# Altium footprint library FPC.PcbLib: 12 footprints
Each footprint in its own frame and in the unit in brackets; x right, y up, seen from the top. Pads: shape width x height; smd on the part's side, far side on the other; paste and mask are expansions set on the pad; w line width, h text height; cw(c..) or ccw(c..) is an arc to the next point about the centre after c.
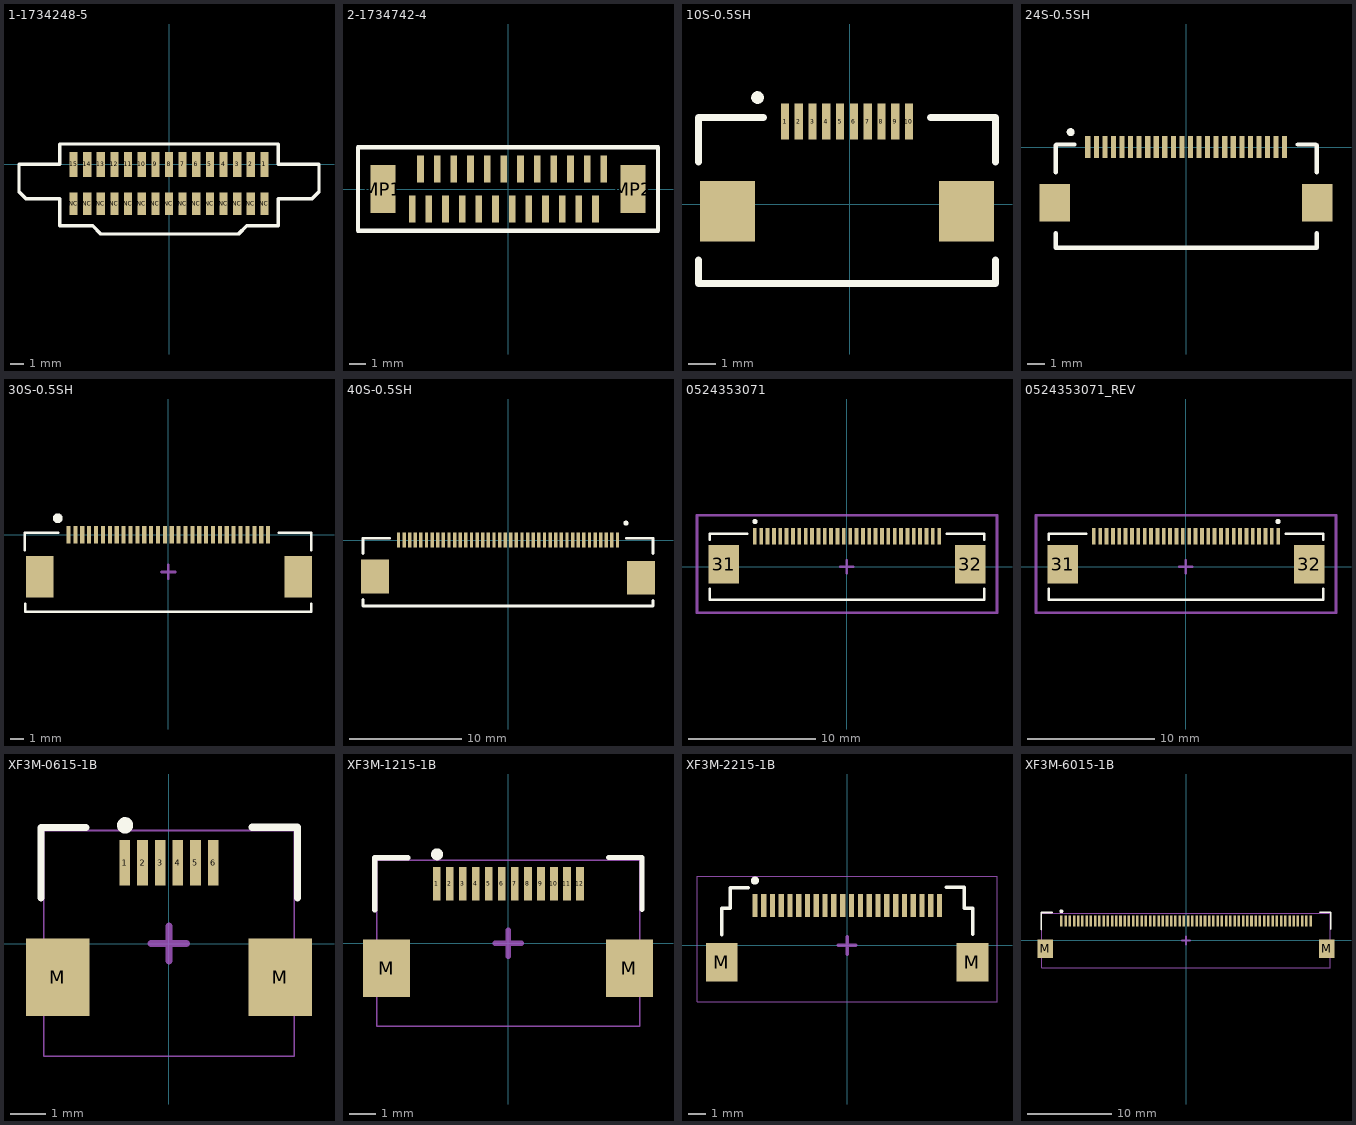
[diagram p0: the footprints below, top view; thin cyan lines are the x and y axes]

## 1-1734248-5 [mm] "Vertical, 15 pins, 1mm pitch, TE connector"
height 5.5
pads (30):
  rect 0.6x1.85 smd: 1(7,0) 2(6,0) 3(5,0) 4(4,0) 5(3,0) 6(2,0) 7(1,0) 8(0,0) 9(-1,0) 10(-2,0) 11(-3,0) 12(-4,0) 13(-5,0) 14(-6,0) 15(-7,0)
  rect 0.6x1.65 smd: NC(-7,-2.9) NC(-6,-2.9) NC(-5,-2.9) NC(-4,-2.9) NC(-3,-2.9) NC(-2,-2.9) NC(-1,-2.9) NC(0,-2.9) NC(1,-2.9) NC(2,-2.9) NC(3,-2.9) NC(4,-2.9) NC(5,-2.9) NC(6,-2.9) NC(7,-2.9)
Top Overlay:
  lines w0.254: -11,-2 -11,0 -8,0 -8,1.5 -7.7,1.5 7.7,1.5 8,1.5 8,0 11,0 11,-2 10.5,-2.5 8,-2.5 8,-4.5 5.7,-4.5 5.1,-5.1 -5,-5.1 -5.6,-4.5 -8,-4.5 -8,-2.5 -10.5,-2.5 -11,-2

## 2-1734742-4 [mm] "Vertical, 24 pins, 0.5mm pitch, TE connector"
height 4.15
pads (26):
  rect 0.4x1.6 smd: 1(-5.75,-1.2) 2(-5.25,1.2) 3(-4.75,-1.2) 4(-4.25,1.2) 5(-3.75,-1.2) 6(-3.25,1.2) 7(-2.75,-1.2) 8(-2.25,1.2) 9(-1.75,-1.2) 10(-1.25,1.2) 11(-0.75,-1.2) 12(-0.25,1.2) 13(0.25,-1.2) 14(0.75,1.2) 15(1.25,-1.2) 16(1.75,1.2) 17(2.25,-1.2) 18(2.75,1.2) 19(3.25,-1.2) 20(3.75,1.2) 21(4.25,-1.2) 22(4.75,1.2) 23(5.25,-1.2) 24(5.75,1.2)
  rect 1.5x2.9 smd: MP1(-7.5,0) MP2(7.5,0)
Top Overlay:
  lines w0.254: -9,-2.5 0,-2.5 9,-2.5 9,0 9,2.5 0,2.5 -9,2.5 -9,0 -9,-2.5

## 10S-0.5SH [mm]
pads (12):
  rect 0.3x1.3 smd: 1(-2.35,3) 2(-1.85,3) 3(-1.35,3) 4(-0.85,3) 5(-0.35,3) 6(0.15,3) 7(0.65,3) 8(1.15,3) 9(1.65,3) 10(2.15,3)
  rect 2x2.2 smd: ""(-4.45,-0.25) ""(4.25,-0.25)
Top Overlay:
  circle w0.254: c-3.35,3.875 r0.103
  lines w0.254: -5.5,-2.025 -5.5,-2.875 5.3,-2.875 5.3,-2.025 ; -5.5,1.525 -5.5,3.15 -3.125,3.15 ; 2.925,3.15 5.3,3.15 5.3,1.525
3D body "1302345_1-1734592-0.stp": height 2.1, standoff 0.05, extent -5.315,-2.11 5.115,3

## 24S-0.5SH [mm]
pads (26):
  rect 0.3x1.3 smd: 1(-5.75,0) 2(-5.25,0) 3(-4.75,0) 4(-4.25,0) 5(-3.75,0) 6(-3.25,0) 7(-2.75,0) 8(-2.25,0) 9(-1.75,0) 10(-1.25,0) 11(-0.75,0) 12(-0.25,0) 13(0.25,0) 14(0.75,0) 15(1.25,0) 16(1.75,0) 17(2.25,0) 18(2.75,0) 19(3.25,0) 20(3.75,0) 21(4.25,0) 22(4.75,0) 23(5.25,0) 24(5.75,0)
  rect 1.8x2.2 smd: ""(-7.675,-3.25) ""(7.65,-3.25)
Top Overlay:
  circle w0.254: c-6.75,0.875 r0.103
  lines w0.254: -7.625,-5.025 -7.625,-5.875 7.625,-5.875 7.625,-5.025 ; -7.625,-1.475 -7.625,0.1 -7.575,0.15 -6.525,0.15 ; 6.525,0.15 7.575,0.15 7.625,0.1 7.625,-1.475

## 30S-0.5SH [mm]
pads (32):
  rect 0.3x1.3 smd mask+0.05: 1(-7.25,0) 2(-6.75,0) 3(-6.25,0) 4(-5.75,0) 5(-5.25,0) 6(-4.75,0) 7(-4.25,0) 8(-3.75,0) 9(-3.25,0) 10(-2.75,0) 11(-2.25,0) 12(-1.75,0) 13(-1.25,0) 14(-0.75,0) 15(-0.25,0) 16(0.25,0) 17(0.75,0) 18(1.25,0) 19(1.75,0) 20(2.25,0) 21(2.75,0) 22(3.25,0) 23(3.75,0) 24(4.25,0) 25(4.75,0) 26(5.25,0) 27(5.75,0) 28(6.25,0) 29(6.75,0) 30(7.25,0)
  rect 2x3 smd: ""(-9.35,-3.05) ""(9.45,-3.05)
Top Overlay:
  circle w0.4: c-8.025,1.2 r0.15
  lines w0.2: -10.423,-1.1 -10.423,0.15 -8.025,0.15 ; -10.397,-5.025 -10.397,-5.6 10.391,-5.6 10.391,-5.025 ; 8.025,0.15 10.385,0.15 10.385,-1.1
Mechanical 15:
  lines w0.2: -0.5,-2.7 0.5,-2.7 ; 0,-3.2 0,-2.2
3D body "affc20-30-050-sht-r.stp": height 2.02, standoff -0.02, extent -10.25,-5.4 10.25,0

## 40S-0.5SH [mm]
pads (42):
  rect 0.3x1.3 smd: 1(9.75,0) 2(9.25,0) 3(8.75,0) 4(8.25,0) 5(7.75,0) 6(7.25,0) 7(6.75,0) 8(6.25,0) 9(5.75,0) 10(5.25,0) 11(4.75,0) 12(4.25,0) 13(3.75,0) 14(3.25,0) 15(2.75,0) 16(2.25,0) 17(1.75,0) 18(1.25,0) 19(0.75,0) 20(0.25,0) 21(-0.25,0) 22(-0.75,0) 23(-1.25,0) 24(-1.75,0) 25(-2.25,0) 26(-2.75,0) 27(-3.25,0) 28(-3.75,0) 29(-4.25,0) 30(-4.75,0) 31(-5.25,0) 32(-5.75,0) 33(-6.25,0) 34(-6.75,0) 35(-7.25,0) 36(-7.75,0) 37(-8.25,0) 38(-8.75,0) 39(-9.25,0) 40(-9.75,0)
  rect 2.5x3 smd: ""(-11.85,-3.25) ""(11.85,-3.35)
Top Overlay:
  circle w0.254: c10.5,1.5 r0.103
  lines w0.254: -12.9,-5.3 -12.9,-5.875 12.9,-5.875 12.9,-5.4 ; -12.9,-1.2 -12.9,0.15 -10.525,0.15 ; 10.55,0.15 12.9,0.15 12.9,-1.2
3D body "62684402100alf.stp": height 2, standoff -0.05, extent -12.75,-5.4 12.75,0.2

## 0524353071 [mm] "CONN FFC FPC TOP 30POS 0.5MM R/A"
height 2
pads (32):
  rect 0.3x1.3 smd mask+0.05: 1(-7.24,2.39) 2(-6.74,2.39) 3(-6.24,2.39) 4(-5.74,2.39) 5(-5.24,2.39) 6(-4.74,2.39) 7(-4.24,2.39) 8(-3.74,2.39) 9(-3.24,2.39) 10(-2.74,2.39) 11(-2.24,2.39) 12(-1.74,2.39) 13(-1.24,2.39) 14(-0.74,2.39) 15(-0.24,2.39) 16(0.26,2.39) 17(0.76,2.39) 18(1.26,2.39) 19(1.76,2.39) 20(2.26,2.39) 21(2.76,2.39) 22(3.26,2.39) 23(3.76,2.39) 24(4.26,2.39) 25(4.76,2.39) 26(5.26,2.39) 27(5.76,2.39) 28(6.26,2.39) 29(6.76,2.39) 30(7.26,2.39)
  rect 2.4x3.05 smd: 31(-9.69,0.2) 32(9.71,0.2)
Top Overlay:
  circle w0.2: c-7.23,3.55 r0.1
  lines w0.2: -10.8,2.14 -10.8,2.6 -7.83,2.6 ; -10.79,-1.75 -10.79,-2.6 10.81,-2.6 10.81,-1.75 ; 7.84,2.6 10.81,2.6 10.81,2.14
Mechanical 15:
  lines w0.2: -0.502,0 0.498,0 ; -0.002,-0.5 -0.002,0.5 ; -11.79,-3.61 11.81,-3.61 11.81,4.04 -11.79,4.04 -11.79,-3.61
3D body "524353071.stp": height 2.17, standoff 0.01, extent -10.79,-2.6 10.81,2.6

## 0524353071_REV [mm] "CONN FFC FPC TOP 30POS 0.5MM (Reversed pins)"
height 2
pads (32):
  rect 0.3x1.3 smd mask+0.05: 1(7.26,2.39) 2(6.76,2.39) 3(6.26,2.39) 4(5.76,2.39) 5(5.26,2.39) 6(4.76,2.39) 7(4.26,2.39) 8(3.76,2.39) 9(3.26,2.39) 10(2.76,2.39) 11(2.26,2.39) 12(1.76,2.39) 13(1.26,2.39) 14(0.76,2.39) 15(0.26,2.39) 16(-0.24,2.39) 17(-0.74,2.39) 18(-1.24,2.39) 19(-1.74,2.39) 20(-2.24,2.39) 21(-2.74,2.39) 22(-3.24,2.39) 23(-3.74,2.39) 24(-4.24,2.39) 25(-4.74,2.39) 26(-5.24,2.39) 27(-5.74,2.39) 28(-6.24,2.39) 29(-6.74,2.39) 30(-7.24,2.39)
  rect 2.4x3.05 smd: 31(-9.68,0.2) 32(9.71,0.2)
Top Overlay:
  circle w0.2: c7.25,3.55 r0.1
  lines w0.2: -10.8,2.14 -10.8,2.6 -7.83,2.6 ; -10.79,-1.75 -10.79,-2.6 10.81,-2.6 10.81,-1.75 ; 7.84,2.6 10.81,2.6 10.81,2.14
Mechanical 15:
  lines w0.2: -0.502,0 0.498,0 ; -0.002,-0.5 -0.002,0.5 ; -11.79,-3.61 11.81,-3.61 11.81,4.04 -11.79,4.04 -11.79,-3.61
3D body "524353071.stp": height 2.17, standoff 0.01, extent -10.79,-2.6 10.81,2.6

## XF3M-0615-1B [mm] "Omron FPC connector; 6 positions; ; 0.5mm pitch"
height 2
pads (8):
  rect 0.3x1.3 smd mask+0.05: 1(-1.245,2.29) 2(-0.745,2.29) 3(-0.245,2.29) 4(0.255,2.29) 5(0.755,2.29) 6(1.255,2.29)
  rect 1.8x2.2 smd: M(-3.145,-0.955) M(3.155,-0.955)
Top Overlay:
  circle w0.254: c-1.24,3.35 r0.103
  lines w0.2: -3.625,1.29 -3.625,3.29 -2.345,3.29 ; 2.36,3.295 3.64,3.295 3.64,1.295
Mechanical 15:
  lines w0.05: -3.545,-3.195 3.555,-3.195 3.555,3.205 -3.545,3.205 -3.545,-3.195
  lines w0.2: -0.5,0 0.5,0 ; 0,-0.5 0,0.5
3D body "xf3m-0615-1b.stp": height 2, standoff 0, extent -3.545,-3.195 3.555,3.205

## XF3M-1215-1B [mm] "Omron FPC connector; 12 positions; 0.5mm pitch"
height 2
pads (14):
  rect 0.3x1.3 smd mask+0.05: 1(-2.749,2.286) 2(-2.248,2.286) 3(-1.749,2.286) 4(-1.249,2.286) 5(-0.749,2.286) 6(-0.249,2.286) 7(0.251,2.286) 8(0.751,2.286) 9(1.251,2.286) 10(1.752,2.286) 11(2.251,2.286) 12(2.752,2.286)
  rect 1.8x2.2 smd: M(-4.674,-0.964) M(4.651,-0.964)
Top Overlay:
  circle w0.254: c-2.739,3.416 r0.103
  lines w0.2: -5.134,1.286 -5.134,3.286 -3.854,3.286 ; 3.861,3.291 5.141,3.291 5.141,1.291
Mechanical 15:
  lines w0.05: -5.05,-3.197 -5.05,3.196 5.051,3.196 5.051,-3.197 -5.05,-3.197
  lines w0.2: -0.499,0 0.501,0 ; 0.001,-0.5 0.001,0.5
3D body "xf3m-1215-1b.stp": height 2, standoff 0, extent -5.048,-3.204 5.052,3.196

## XF3M-2215-1B [mm] "Omron FPC connector; 22 positions; 0.5mm pitch"
height 2
pads (24):
  rect 0.3x1.3 smd mask+0.05: 1(-5.249,2.286) 2(-4.749,2.286) 3(-4.249,2.286) 4(-3.749,2.286) 5(-3.249,2.286) 6(-2.749,2.286) 7(-2.249,2.286) 8(-1.749,2.286) 9(-1.249,2.286) 10(-0.749,2.286) 11(-0.249,2.286) 12(0.251,2.286) 13(0.771,2.286) 14(1.271,2.286) 15(1.771,2.286) 16(2.271,2.286) 17(2.771,2.286) 18(3.271,2.286) 19(3.771,2.286) 20(4.271,2.286) 21(4.771,2.286) 22(5.271,2.286)
  rect 1.8x2.2 smd: M(-7.143,-0.964) M(7.151,-0.964)
Top Overlay:
  circle w0.254: c-5.25,3.7 r0.103
  lines w0.2: -7.14,0.62 -7.14,2.12 -6.67,2.12 ; -6.664,2.12 -6.664,3.286 ; -6.664,3.296 -5.634,3.296 ; 5.654,3.306 6.684,3.306 ; 6.684,2.13 6.684,3.296 ; 6.69,2.13 7.16,2.13 7.16,0.63
Mechanical 15:
  lines w0.05: -8.55,-3.2 -8.55,3.94 8.55,3.94 8.55,-3.2 -8.55,-3.2
  lines w0.2: -0.499,0 0.501,0 ; 0.001,-0.5 0.001,0.5
3D body "XF3M_2215_1B.stp": height 2, standoff 0, extent -7.55,-3.21 7.55,3.19

## XF3M-6015-1B [mm] "Omron FPC connector; 60 positions; 0.5mm pitch"
height 2
pads (62):
  rect 0.3x1.3 smd paste+0 mask+0.05: 1(-14.75,2.29) 2(-14.25,2.29) 3(-13.75,2.29) 4(-13.25,2.29) 5(-12.75,2.29) 6(-12.25,2.29) 7(-11.75,2.29) 8(-11.25,2.29) 9(-10.75,2.29) 10(-10.25,2.29) 11(-9.75,2.29) 12(-9.25,2.29) 13(-8.75,2.29) 14(-8.25,2.29) 15(-7.75,2.29) 16(-7.25,2.29) 17(-6.75,2.29) 18(-6.25,2.29) 19(-5.75,2.29) 20(-5.25,2.29) 21(-4.75,2.29) 22(-4.25,2.29) 23(-3.75,2.29) 24(-3.25,2.29) 25(-2.75,2.29) 26(-2.25,2.29) 27(-1.75,2.29) 28(-1.25,2.29) 29(-0.75,2.29) 30(-0.25,2.29) 31(0.25,2.29) 32(0.75,2.29) 33(1.25,2.29) 34(1.75,2.29) 35(2.25,2.29) 36(2.75,2.29) 37(3.25,2.29) 38(3.75,2.29) 39(4.25,2.29) 40(4.75,2.29) 41(5.25,2.29) 42(5.75,2.29) 43(6.25,2.29) 44(6.75,2.29) 45(7.25,2.29) 46(7.75,2.29) 47(8.25,2.29) 48(8.75,2.29) 49(9.25,2.29) 50(9.75,2.29) 51(10.25,2.29) 52(10.75,2.29) 53(11.25,2.29) 54(11.75,2.29) 55(12.25,2.29) 56(12.75,2.29) 57(13.25,2.29) 58(13.75,2.29) 59(14.25,2.29) 60(14.75,2.29)
  rect 1.8x2.2 smd paste-1.1 mask+0.102: M(-16.65,-0.96) M(16.65,-0.96)
Top Overlay:
  circle w0.254: c-14.75,3.45 r0.103
  lines w0.2: -17.134,1.306 -17.134,3.306 -15.854,3.306 ; 15.861,3.321 17.141,3.321 17.141,1.321
Mechanical 15:
  lines w0.05: -17.05,-3.21 -17.05,3.216 17.05,3.216 17.05,-3.21 -17.05,-3.21
  lines w0.2: -0.499,0 0.501,0 ; 0.001,-0.5 0.001,0.5
3D body "xf3m-6015-1b.stp": height 2, standoff 0, extent -17.05,-3.21 17.05,3.19